# Altium schematic symbol library Componentes Deived Projetos.SchLib: 211 symbols (part 3 of 3)
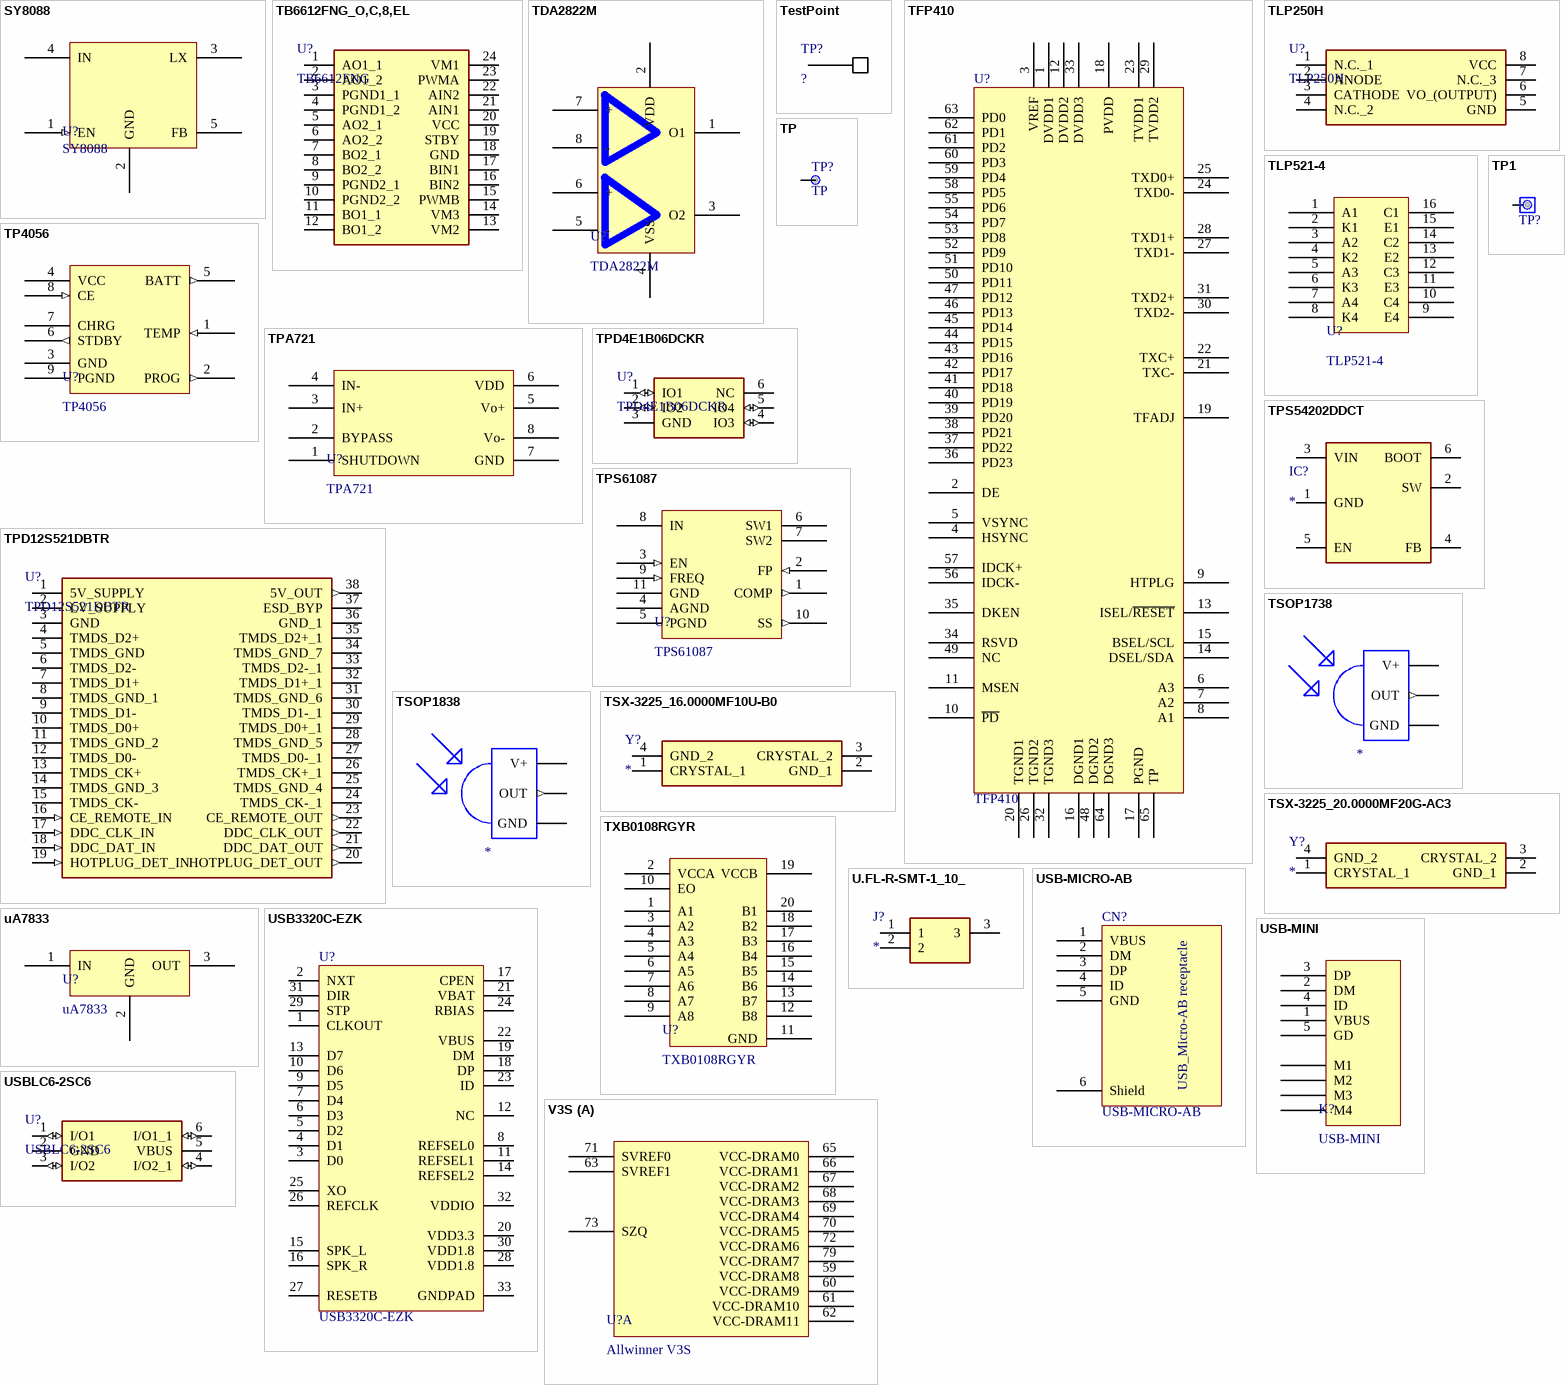
[diagram p11: symbols SY8088 to V3S]

## TPD12S521DBTR
designator U?
The TPD12S521 is a single-chip electro-static / discharge (ESD) circuit protection device for the highdefinition multimedia interface (HDMI) transmitter / port.
footprint SOP50P640X120-38N
pins: 1 5V_SUPPLY (power), 2 LV_SUPPLY, 3 GND (power), 4 TMDS_D2+, 5 TMDS_GND (power), 6 TMDS_D2-, 7 TMDS_D1+, 8 TMDS_GND_1 (power), 9 TMDS_D1-, 10 TMDS_D0+, 11 TMDS_GND_2 (power), 12 TMDS_D0-, 13 TMDS_CK+, 14 TMDS_GND_3 (power), 15 TMDS_CK-, 16 CE_REMOTE_IN (in), 17 DDC_CLK_IN (in), 18 DDC_DAT_IN (in), 19 HOTPLUG_DET_IN (in), 20 HOTPLUG_DET_OUT (out), 21 DDC_DAT_OUT (out), 22 DDC_CLK_OUT (out), 23 CE_REMOTE_OUT (out), 24 TMDS_CK-_1, 25 TMDS_GND_4 (power), 26 TMDS_CK+_1, 27 TMDS_D0-_1, 28 TMDS_GND_5 (power), 29 TMDS_D0+_1, 30 TMDS_D1-_1, 31 TMDS_GND_6 (power), 32 TMDS_D1+_1, 33 TMDS_D2-_1, 34 TMDS_GND_7 (power), 35 TMDS_D2+_1, 36 GND_1 (power), 37 ESD_BYP, 38 5V_OUT (out)

## TPS54202DDCT
designator IC?
Integrated Circuit
footprint SOT95P280X100-6N
pins: 1 GND, 2 SW, 3 VIN, 4 FB, 5 EN, 6 BOOT

## TPS61087
designator U?
TPS61087 650-kHz,1.2-MHz, 18.5-V Step-Up DC-DC Converter With 3.2-A Switch
footprint VSON-N10
pins: 1 COMP (out), 2 FP (in), 3 EN (in), 4 AGND, 5 PGND, 6 SW1, 7 SW2, 8 IN, 9 FREQ (in), 10 SS (out), 11 GND

## TSOP1738
designator ?
IR Remote Receiver 38KHz 35m 3-Pin; MP: TSOP1738.; MF: Vishay; Package: DIP-3 Vishay; Value: *; Availability: Unavailable; Price: None; SnapEDA_Link: https://www.snapeda.com/parts/TSOP1738./Vishay/view-part/420043/?ref=snap
footprint TSOP17XX
pins: GND, OUT (out), V+

## TSOP1838
designator ?
IR Remote Receiver 38KHz 35m 3-Pin; MF: Vishay; MP: TSOP1838; Price: None; SnapEDA_Link: https://www.snapeda.com/parts/TSOP1838/Vishay/view-part/561684/?ref=snap; Availability: Unavailable; Value: *; Package: None
footprint TSOP18XX
pins: GND, OUT (out), VCC V+

## TSX-3225_16.0000MF10U-B0
designator Y?
Crystal or Oscillator; Manufacturer_Name: Epson Timing; Manufacturer_Part_Number: TSX-3225 16.0000MF10U-B0; Datasheet Link: https://support.epson.biz/td/api/doc_check.php?dl=brief_TSX-3225&lang=en; Height: 0.6mm; Mouser Part Number: 732-322516MF10U-B0; Mouser Price/Stock: https://www.mouser.co.uk/ProductDetail/Epson-Timing/TSX-3225-160000MF10U-B0?qs=%252B0hcjpVv37o282i6EmdVvw%3D%3D
footprint TSX3225240000MF20GAC0
pins: 1 CRYSTAL_1, 2 GND_1, 3 CRYSTAL_2, 4 GND_2

## TSX-3225_20.0000MF20G-AC3
designator Y?
Crystal or Oscillator; Manufacturer_Name: Epson Timing; Manufacturer_Part_Number: TSX-3225 20.0000MF20G-AC3; Datasheet Link: https://support.epson.biz/td/api/doc_check.php?dl=brief_TSX-3225&lang=en; Height: 0.6mm; Mouser Part Number: 732-TX325-20F20G-AC3; Mouser Price/Stock: https://www.mouser.co.uk/ProductDetail/Epson-Timing/TSX-3225-200000MF20G-AC3?qs=tC2qD9afNgrQyylzU7fi%252Bw%3D%3D
footprint TSX3225200000MF20GAC3
pins: 1 CRYSTAL_1, 2 GND_1, 3 CRYSTAL_2, 4 GND_2

## TXB0108RGYR
designator U?
TXB0108 8-Bit Bidirectional Voltage-Level Translator with Auto-Direction Sensing and  ±15-kV ESD Protection
footprint SOP20
pins: 1 A1, 2 VCCA, 3 A2, 4 A3, 5 A4, 6 A5, 7 A6, 8 A7, 9 A8, 10 EO, 11 GND, 12 B8, 13 B7, 14 B6, 15 B5, 16 B4, 17 B3, 18 B2, 19 VCCB, 20 B1

## U.FL-R-SMT-1_10_
designator J?
Connector; Manufacturer_Name: Hirose; Manufacturer_Part_Number: U.FL-R-SMT-1(10); Datasheet Link: https://www.hirose.com/product/document?clcode=CL0331-0472-2-10&productname=U.FL-R-SMT-1(10)&series=U.FL&documenttype=2DDrawing&lang=en&documentid=0000940684; Mouser Part Number: 798-U.FL-R-SMT-110; Mouser Price/Stock: https://www.mouser.co.uk/ProductDetail/Hirose-Connector/UFL-R-SMT-110?qs=kL1ClTr6oBoOdtqlGQpQrQ%3D%3D; Arrow Part Number: U.FL-R-SMT-1(10); Arrow Price/Stock: https://www.arrow.com/en/products/u.fl-r-smt-1-10/hirose-electric
footprint U.FL-R-SMT-1(10)
pins: 1, 2, 3

## uA7833
designator U?
Regulador 3.3v uA7833
pins: 1 IN, 2 GND, 3 OUT

## USB3320C-EZK
designator U?
USB3320C,  Hi-Speed USB Host, Device or OTG PHY with ULPI Low Pin Interface
footprint QFN32_0R5_5X5 (Footprint not found)
pins: 1 CLKOUT, 2 NXT, 3 D0, 4 D1, 5 D2, 6 D3, 7 D4, 8 REFSEL0, 9 D5, 10 D6, 11 REFSEL1, 12 NC, 13 D7, 14 REFSEL2, 15 SPK_L, 16 SPK_R, 17 CPEN, 18 DP, 19 DM, 20 VDD3.3, 21 VBAT, 22 VBUS, 23 ID, 24 RBIAS, 25 XO, 26 REFCLK, 27 RESETB, 28 VDD1.8, 29 STP, 30 VDD1.8, 31 DIR, 32 VDDIO, 33 GNDPAD

## USB-MICRO-AB
designator CN?
USB-MICRO-AB, 47590-0001, SMT, MOLEX
footprint USB-MICRO-AB
pins: 1 VBUS, 2 DM, 3 DP, 4 ID, 5 GND, 6 Shield
text: USB_Micro-AB receptacle

## USB-MINI
designator K?
footprint USB-MINI
pins: 1 VBUS, 2 DM, 3 DP, 4 ID, 5 GD, M1, M2, M3, M4

## USBLC6-2SC6
designator U?
Very low capacitance ESD protection
footprint SOT95P280X145-6N
pins: 1 I/O1 (io), 2 GND (power), 3 I/O2 (io), 4 I/O2_1 (io), 5 VBUS, 6 I/O1_1 (io)

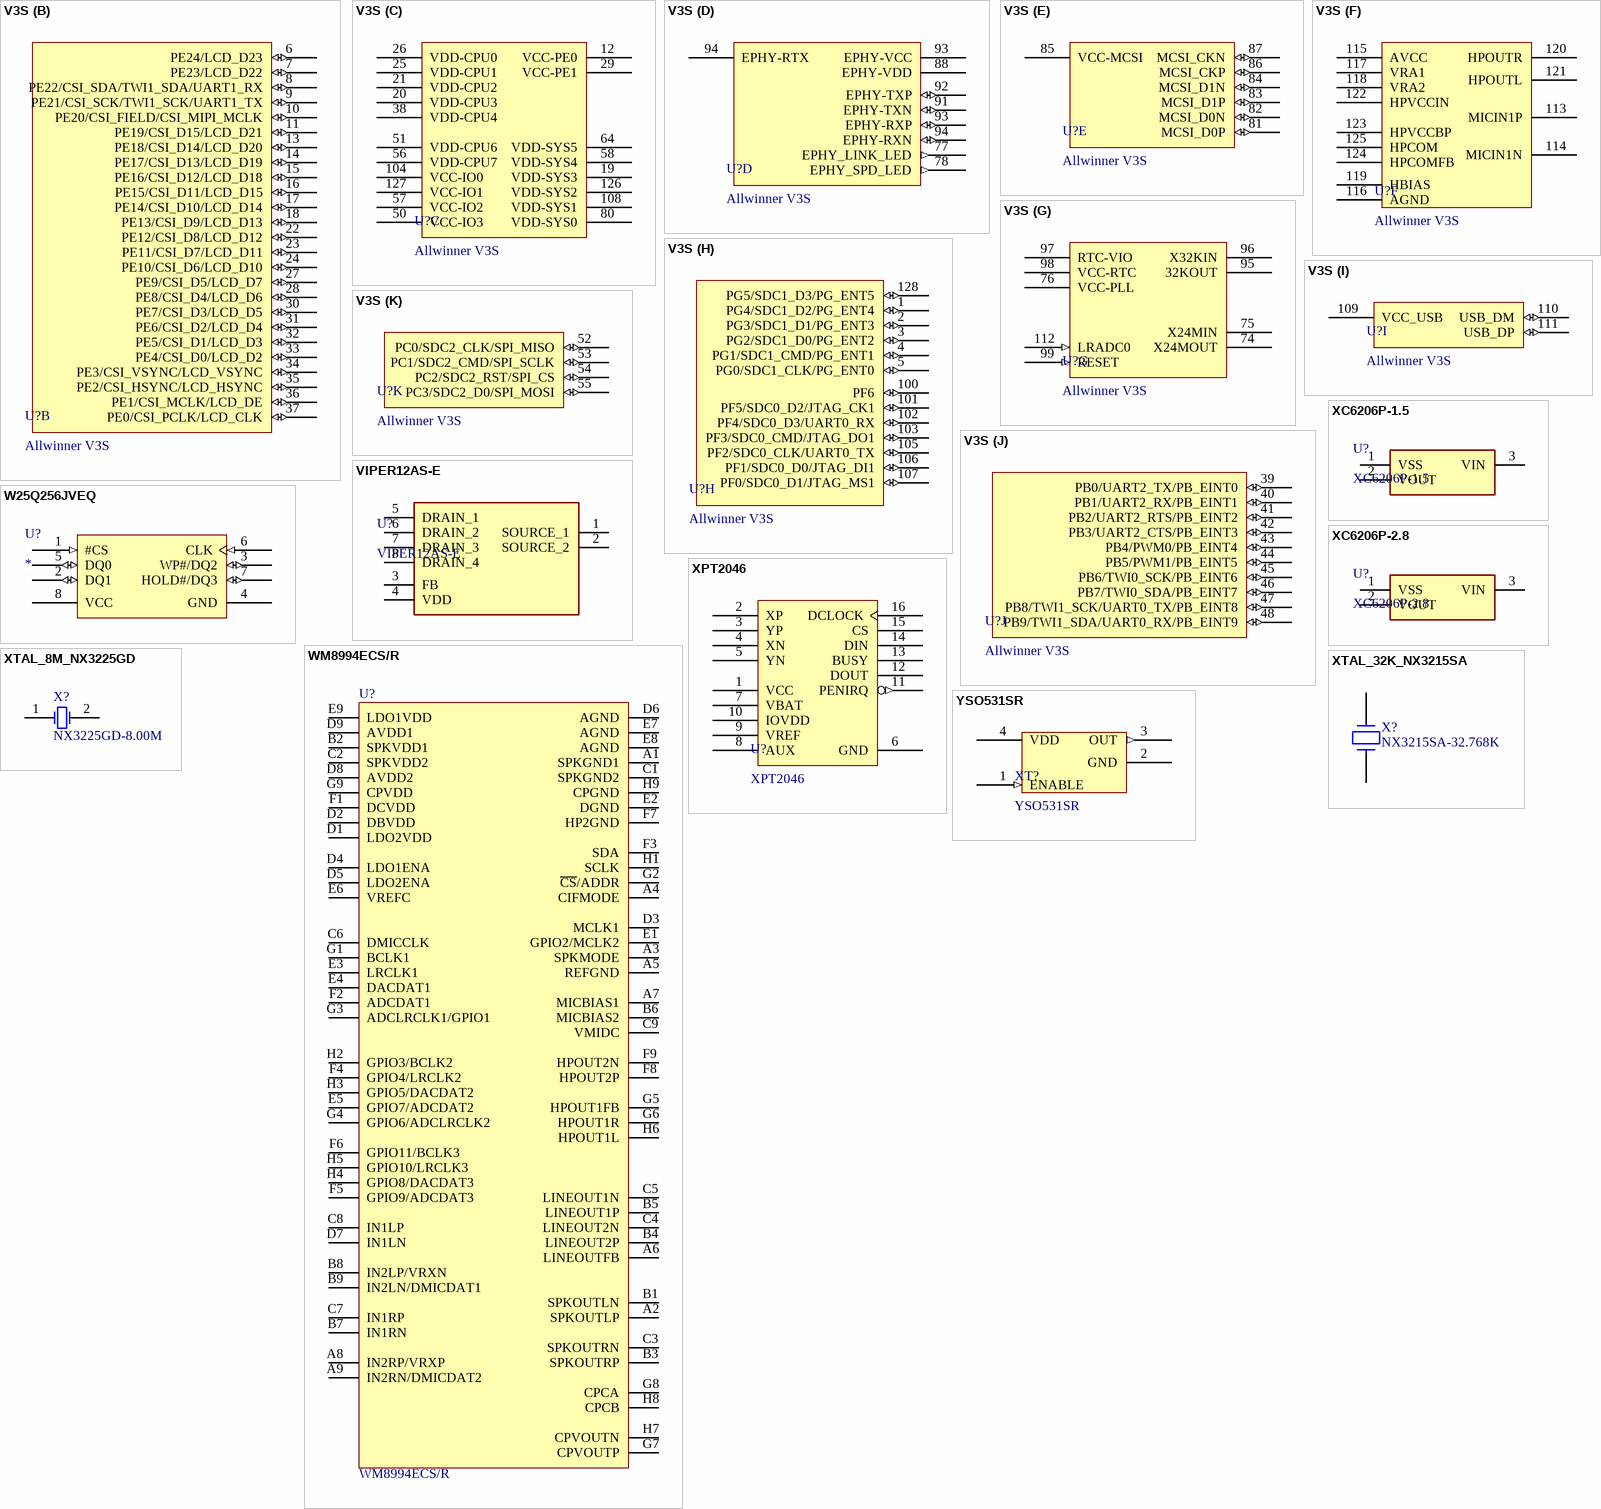
[diagram p9: symbols V3S to YSO531SR]

## V3S
designator U?, comment Allwinner V3S
Allwinner V3s ARM Cortex A-7 Processor
part A pins: 59 VCC-DRAM8 (power), 60 VCC-DRAM9 (power), 61 VCC-DRAM10 (power), 62 VCC-DRAM11 (power), 63 SVREF1 (power), 65 VCC-DRAM0 (power), 66 VCC-DRAM1 (power), 67 VCC-DRAM2 (power), 68 VCC-DRAM3 (power), 69 VCC-DRAM4 (power), 70 VCC-DRAM5 (power), 71 SVREF0 (power), 72 VCC-DRAM6 (power), 73 SZQ, 79 VCC-DRAM7 (power)
part B pins: 6 PE24/LCD_D23 (io), 7 PE23/LCD_D22 (io), 8 PE22/CSI_SDA/TWI1_SDA/UART1_RX (io), 9 PE21/CSI_SCK/TWI1_SCK/UART1_TX (io), 10 PE20/CSI_FIELD/CSI_MIPI_MCLK (io), 11 PE19/CSI_D15/LCD_D21 (io), 13 PE18/CSI_D14/LCD_D20 (io), 14 PE17/CSI_D13/LCD_D19 (io), 15 PE16/CSI_D12/LCD_D18 (io), 16 PE15/CSI_D11/LCD_D15 (io), 17 PE14/CSI_D10/LCD_D14 (io), 18 PE13/CSI_D9/LCD_D13 (io), 22 PE12/CSI_D8/LCD_D12 (io), 23 PE11/CSI_D7/LCD_D11 (io), 24 PE10/CSI_D6/LCD_D10 (io), 27 PE9/CSI_D5/LCD_D7 (io), 28 PE8/CSI_D4/LCD_D6 (io), 30 PE7/CSI_D3/LCD_D5 (io), 31 PE6/CSI_D2/LCD_D4 (io), 32 PE5/CSI_D1/LCD_D3 (io), 33 PE4/CSI_D0/LCD_D2 (io), 34 PE3/CSI_VSYNC/LCD_VSYNC (io), 35 PE2/CSI_HSYNC/LCD_HSYNC (io), 36 PE1/CSI_MCLK/LCD_DE (io), 37 PE0/CSI_PCLK/LCD_CLK (io)
part C pins: 12 VCC-PE0 (power), 19 VDD-SYS3 (power), 20 VDD-CPU3 (power), 21 VDD-CPU2 (power), 25 VDD-CPU1 (power), 26 VDD-CPU0 (power), 29 VCC-PE1 (power), 38 VDD-CPU4 (power), 50 VCC-IO3, 51 VDD-CPU6 (power), 56 VDD-CPU7 (power), 57 VCC-IO2 (power), 58 VDD-SYS4 (power), 64 VDD-SYS5, 80 VDD-SYS0 (power), 104 VCC-IO0 (power), 108 VDD-SYS1 (power), 126 VDD-SYS2 (power), 127 VCC-IO1 (power)
part D pins: 77 EPHY_LINK_LED (out), 78 EPHY_SPD_LED (out), 88 EPHY-VDD, 91 EPHY-TXN (io), 92 EPHY-TXP (io), 93 EPHY-VCC, 93 EPHY-RXP (io), 94 EPHY-RTX, 94 EPHY-RXN (io)
part E pins: 81 MCSI_D0P (io), 82 MCSI_D0N (io), 83 MCSI_D1P (io), 84 MCSI_D1N (io), 85 VCC-MCSI (power), 86 MCSI_CKP (io), 87 MCSI_CKN (io)
part F pins: 113 MICIN1P, 114 MICIN1N, 115 AVCC (power), 116 AGND (power), 117 VRA1 (power), 118 VRA2 (power), 119 HBIAS, 120 HPOUTR, 121 HPOUTL, 122 HPVCCIN, 123 HPVCCBP, 124 HPCOMFB, 125 HPCOM
part G pins: 74 X24MOUT, 75 X24MIN, 76 VCC-PLL (power), 95 32KOUT, 96 X32KIN, 97 RTC-VIO (power), 98 VCC-RTC (power), 99 RESET (in), 112 LRADC0 (in)
part H pins: 1 PG4/SDC1_D2/PG_ENT4 (io), 2 PG3/SDC1_D1/PG_ENT3 (io), 3 PG2/SDC1_D0/PG_ENT2 (io), 4 PG1/SDC1_CMD/PG_ENT1 (io), 5 PG0/SDC1_CLK/PG_ENT0 (io), 100 PF6 (io), 101 PF5/SDC0_D2/JTAG_CK1 (io), 102 PF4/SDC0_D3/UART0_RX (io), 103 PF3/SDC0_CMD/JTAG_DO1 (io), 105 PF2/SDC0_CLK/UART0_TX (io), 106 PF1/SDC0_D0/JTAG_DI1 (io), 107 PF0/SDC0_D1/JTAG_MS1 (io), 128 PG5/SDC1_D3/PG_ENT5 (io)
part I pins: 109 VCC_USB (power), 110 USB_DM (io), 111 USB_DP (io)
part J pins: 39 PB0/UART2_TX/PB_EINT0 (io), 40 PB1/UART2_RX/PB_EINT1 (io), 41 PB2/UART2_RTS/PB_EINT2 (io), 42 PB3/UART2_CTS/PB_EINT3 (io), 43 PB4/PWM0/PB_EINT4 (io), 44 PB5/PWM1/PB_EINT5 (io), 45 PB6/TWI0_SCK/PB_EINT6 (io), 46 PB7/TWI0_SDA/PB_EINT7 (io), 47 PB8/TWI1_SCK/UART0_TX/PB_EINT8 (io), 48 PB9/TWI1_SDA/UART0_RX/PB_EINT9 (io)
part K pins: 52 PC0/SDC2_CLK/SPI_MISO (io), 53 PC1/SDC2_CMD/SPI_SCLK (io), 54 PC2/SDC2_RST/SPI_CS (io), 55 PC3/SDC2_D0/SPI_MOSI (io)

## VIPER12AS-E
designator U?
IntegratedLow power offline switched-mode power supply primary switcher / Circuit; Manufacturer_Name: STMicroelectronics; Datasheet Link: http://www.st.com/st-web-ui/static/active/en/resource/technical/document/datasheet/CD00084384.pdf; Height: 1.75mm; Manufacturer_Part_Number: VIPER12AS-E; Mouser Part Number: 511-VIPER12AS-E; Mouser Price/Stock: https://www.mouser.co.uk/ProductDetail/STMicroelectronics/VIPER12AS-E?qs=4qSGC86Ff6SngJaNO820Xw%3D%3D; Arrow Part Number: VIPER12AS-E; Arrow Price/Stock: https://www.arrow.com/en/products/viper12as-e/stmicroelectronics
footprint SOIC127P600X175-8N
pins: 1 SOURCE_1, 2 SOURCE_2, 3 FB, 4 VDD, 5 DRAIN_1, 6 DRAIN_2, 7 DRAIN_3, 8 DRAIN_4

## W25Q256JVEQ
designator U?
3V 256M-BIT SERIAL FLASH MEMORY WITH DUAL/QUAD SPI
footprint SON127P800X600X80-9N-D
pins: 1 #CS (in), 2 DQ1 (io), 3 WP#/DQ2 (io), 4 GND (power), 5 DQ0 (io), 6 CLK (in), 7 HOLD#/DQ3 (io), 8 VCC (power)

## WM8994ECS/R
designator U?
Multi-Channel Audio Hub CODEC for Smartphones
footprint BGA72-WCSP (Footprint not found)
footprint BGA72_0R5_4R5X4 (Footprint not found)
pins: A1 SPKGND1, A2 SPKOUTLP, A3 SPKMODE, A4 CIFMODE, A5 REFGND, A6 LINEOUTFB, A7 MICBIAS1, A8 IN2RP/VRXP, A9 IN2RN/DMICDAT2, B1 SPKOUTLN, B2 SPKVDD1, B3 SPKOUTRP, B4 LINEOUT2P, B5 LINEOUT1P, B6 MICBIAS2, B7 IN1RN, B8 IN2LP/VRXN, B9 IN2LN/DMICDAT1, C1 SPKGND2, C2 SPKVDD2, C3 SPKOUTRN, C4 LINEOUT2N, C5 LINEOUT1N, C6 DMICCLK, C7 IN1RP, C8 IN1LP, C9 VMIDC, D1 LDO2VDD, D2 DBVDD, D3 MCLK1, D4 LDO1ENA, D5 LDO2ENA, D6 AGND, D7 IN1LN, D8 AVDD2, D9 AVDD1, E1 GPIO2/MCLK2, E2 DGND, E3 LRCLK1, E4 DACDAT1, E5 GPIO7/ADCDAT2, E6 VREFC, E7 AGND, E8 AGND, E9 LDO1VDD, F1 DCVDD, F2 ADCDAT1, F3 SDA, F4 GPIO4/LRCLK2, F5 GPIO9/ADCDAT3, F6 GPIO11/BCLK3, F7 HP2GND, F8 HPOUT2P, F9 HPOUT2N, G1 BCLK1, G2 ~{CS}/ADDR, G3 ADCLRCLK1/GPIO1, G4 GPIO6/ADCLRCLK2, G5 HPOUT1FB, G6 HPOUT1R, G7 CPVOUTP, G8 CPCA, G9 CPVDD, H1 SCLK, H2 GPIO3/BCLK2, H3 GPIO5/DACDAT2, H4 GPIO8/DACDAT3, H5 GPIO10/LRCLK3, H6 HPOUT1L, H7 CPVOUTN, H8 CPCB, H9 CPGND

## XC6206P-1.5
designator U?
Low ESR Voltage Regulator; Manufacturer_Name: Torex; Manufacturer_Part_Number: XC6206P152MR-G; Datasheet Link: https://www.torexsemi.com/file/xc6206/XC6206.pdf; Height: 1.3mm; Mouser Part Number: 865-XC6206P152MR-G; Mouser Price/Stock: https://www.mouser.co.uk/ProductDetail/Torex-Semiconductor/XC6206P152MR-G?qs=AsjdqWjXhJ%2FTdxm%252B3lQcfQ%3D%3D
footprint SOT95P251X112-3N
pins: 1 VSS, 2 VOUT, 3 VIN

## XC6206P-2.8
designator U?
Low ESR Voltage Regulator; Manufacturer_Name: Torex; Manufacturer_Part_Number: XC6206P152MR-G; Datasheet Link: https://www.torexsemi.com/file/xc6206/XC6206.pdf; Height: 1.3mm; Mouser Part Number: 865-XC6206P152MR-G; Mouser Price/Stock: https://www.mouser.co.uk/ProductDetail/Torex-Semiconductor/XC6206P152MR-G?qs=AsjdqWjXhJ%2FTdxm%252B3lQcfQ%3D%3D
footprint SOT95P251X112-3N
pins: 1 VSS, 2 VOUT, 3 VIN

## XPT2046
designator U?
Touch Controller
footprint TSSOP-16
pins: 1 VCC, 2 XP, 3 YP, 4 XN, 5 YN, 6 GND, 7 VBAT, 8 AUX, 9 VREF, 10 IOVDD, 11 PENIRQ (out), 12 DOUT, 13 BUSY, 14 DIN, 15 CS, 16 DCLOCK

## XTAL_8M_NX3225GD
designator X?, comment NX3225GD-8.00M
Crystal 8Mhz, 8pF, -+50PPM, SMD
footprint XTAL_2SM_3R2X2R5 (Footprint not found)
pins: 1 OSC1, 2 OSC2
2 alternate drawings of the same symbol

## XTAL_32K_NX3215SA
designator X?, comment NX3215SA-32.768K
Crystal 32.768kHz, 6pF, -+20PPM, R=50K, SMD
footprint XTAL1 (Footprint not found)
footprint XTAL_2SM_3R2X1R5 (Footprint not found)
pins: 1, 2
2 alternate drawings of the same symbol

## YSO531SR
designator XT?
Cristal Oscilator Active 1.8v - 3.3v
footprint CRISTAL
pins: 1 ENABLE (in), 2 GND, 3 OUT (out), 4 VDD